# Altium schematic symbol library OpenMV接驳板.SchLib: 1 symbol
Pins are listed as number, name and electrical type; pins without a type are passive.

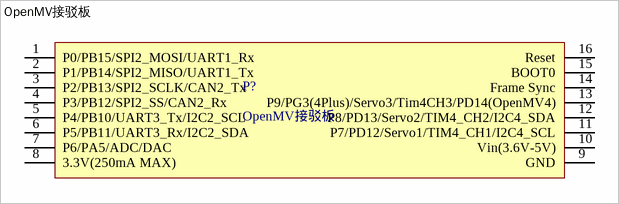
[diagram p0: symbol OpenMV接驳板]

## OpenMV接驳板
designator P?
footprint OpenMV扩展版(贴片排母)
pins: 1 P0/PB15/SPI2_MOSI/UART1_Rx, 2 P1/PB14/SPI2_MISO/UART1_Tx, 3 P2/PB13/SPI2_SCLK/CAN2_Tx, 4 P3/PB12/SPI2_SS/CAN2_Rx, 5 P4/PB10/UART3_Tx/I2C2_SCL, 6 P5/PB11/UART3_Rx/I2C2_SDA, 7 P6/PA5/ADC/DAC, 8 3.3V(250mA MAX), 9 GND, 10 Vin(3.6V-5V), 11 P7/PD12/Servo1/TIM4_CH1/I2C4_SCL, 12 P8/PD13/Servo2/TIM4_CH2/I2C4_SDA, 13 P9/PG3(4Plus)/Servo3/Tim4CH3/PD14(OpenMV4), 14 Frame Sync, 15 BOOT0, 16 Reset